# EAGLE library part PTN78020WAH (library ptn78060wah)
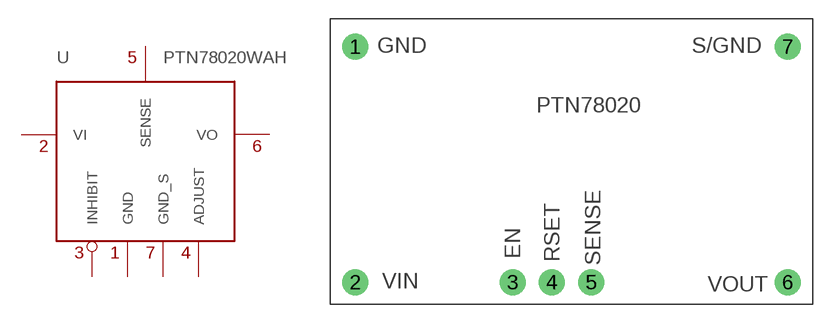
[diagram p1: symbol with the pads of PTN78020WAH; footprint PTN78020WAH]

Designator prefix -

## PTN78020WAH  [PTN78020WAH]
1  GND
2  VI
3  INHIBIT
4  ADJUST
5  SENSE
6  VO
7  GND_S

## Footprint PTN78020WAH (pad centres in mm)
drill 1.4: 1 2.032,20.828; 2 2.032,1.778; 3 14.732,1.778; 4 17.907,1.778; 5 21.082,1.778; 6 36.957,1.778; 7 36.957,20.828